# Altium schematic symbol library 0031.8001.SchLib: 1 symbol
Pins are listed as number, name and electrical type; pins without a type are passive.

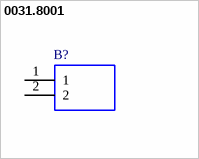
[diagram p0: symbol 0031.8001]

## 0031.8001
designator B?
Schurter 10A PCB Mount Fuse Holder for 5 x 20mm Cartridge Fuse, 600V ac; Geometry.Height: 16mm; Manufacturer_Name: SCHURTER; Manufacturer_Part_Number: 0031.8001; Mouser Part Number: 693-0031.8001; Mouser Price/Stock: https://www.mouser.co.uk/ProductDetail/Schurter/00318001?qs=O0rkjp6QUW03dujSw3t4tQ%3D%3D; Arrow Part Number: 0031.8001; Arrow Price/Stock: https://www.arrow.com/en/products/0031.8001/schurter; Mouser Testing Part Number: *; Mouser Testing Price/Stock: *; Datasheet Link: http://www.schurterinc.com/bundles/snceschurter/epim/_ProdPool_/newDS/en/typ_OG__Holder__5x20.pdf
footprint 00318001
pins: 1, 2